# Altium footprint library resistors.PcbLib: 13 footprints
Each footprint in its own frame and in the unit in brackets; x right, y up, seen from the top. Pads: shape width x height; smd on the part's side, far side on the other; paste and mask are expansions set on the pad; w line width, h text height; cw(c..) or ccw(c..) is an arc to the next point about the centre after c.
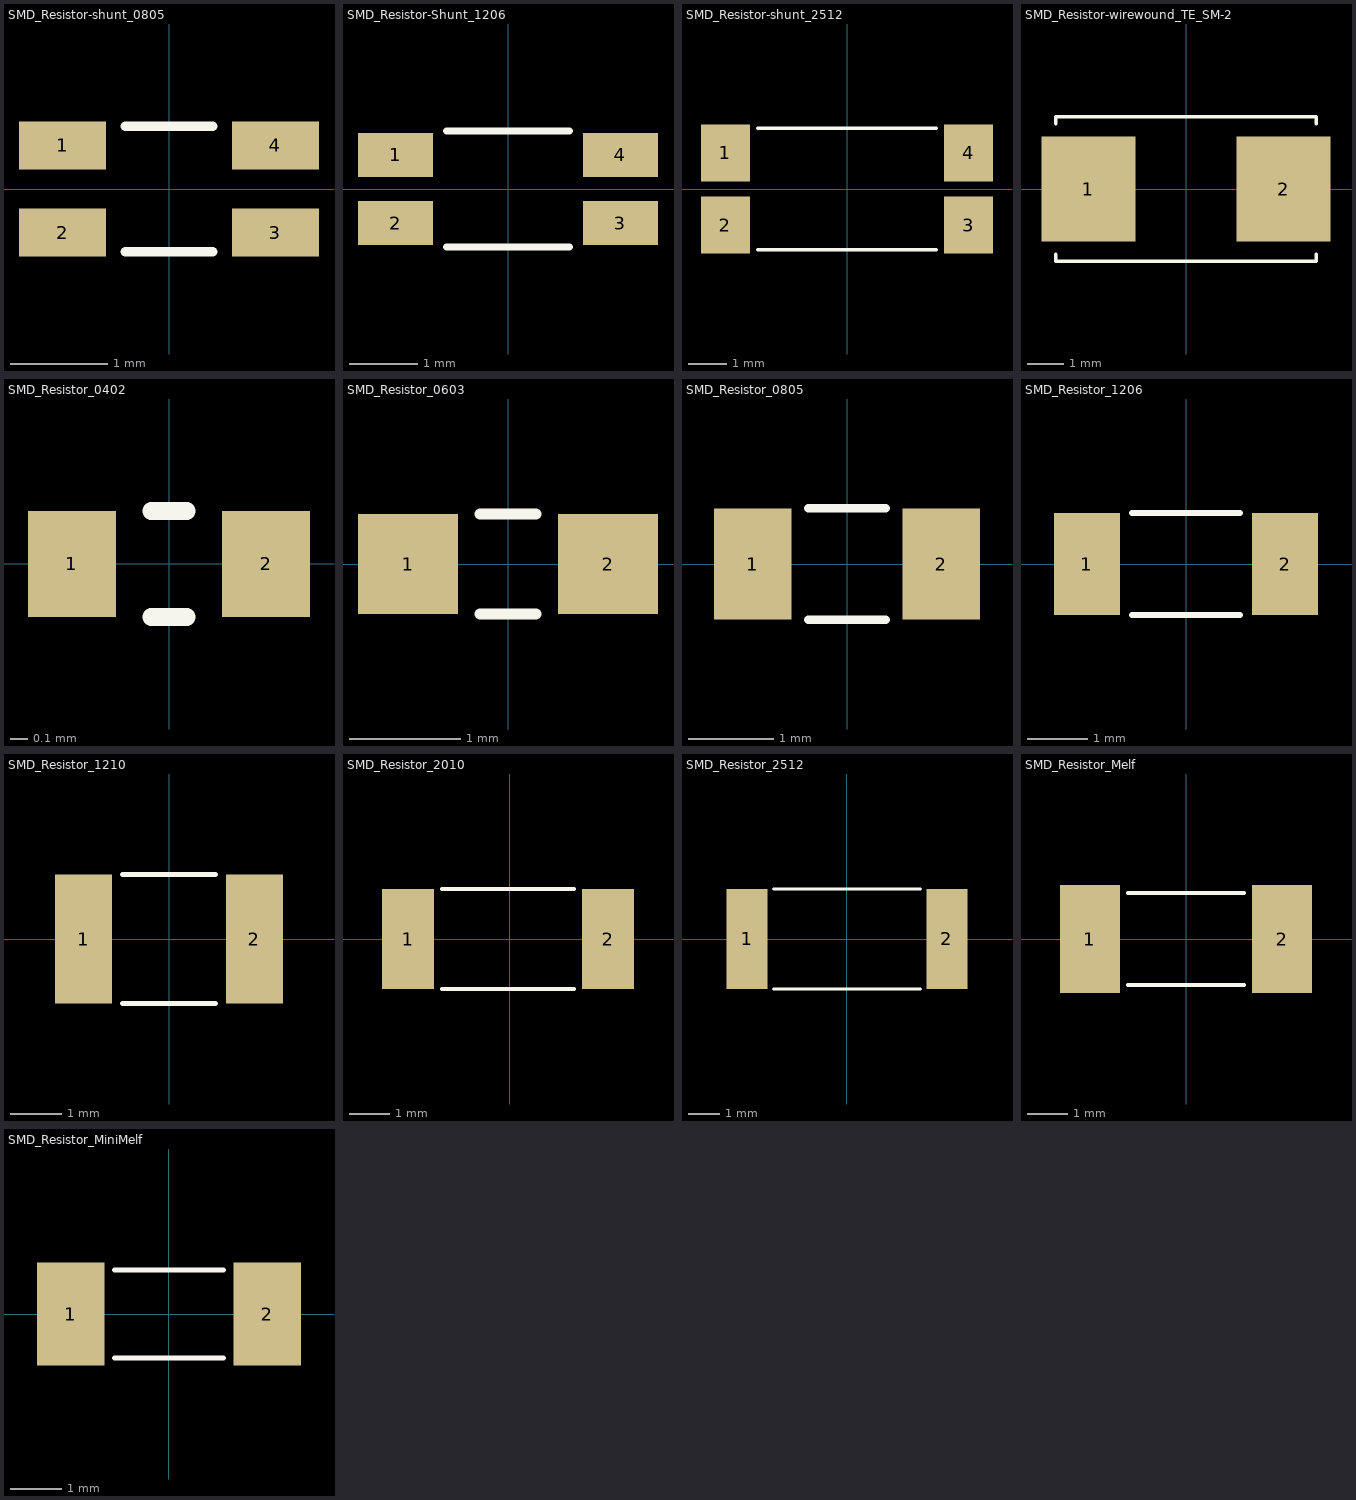
[diagram p0: the footprints below, top view; thin cyan lines are the x and y axes]

## SMD_Resistor-shunt_0805 [mm] "SMD Shunt Resistor, Inch 0805, Metric 2012."
pads (4):
  rect 0.9x0.5 smd: 1(-1.1,0.45) 2(-1.1,-0.45) 3(1.1,-0.45) 4(1.1,0.45)
Top Overlay:
  lines w0.1: -0.45,-0.65 0.45,-0.65 ; -0.45,0.65 0.45,0.65
3D body: height 0.5, standoff 0, extent -1,-0.625 1,0.625

## SMD_Resistor-Shunt_1206 [mm] "SMD Shunt Resistor, Inch 1206, Metric 3216."
pads (4):
  rect 1.1x0.65 smd: 1(-1.65,0.5) 2(-1.65,-0.5) 3(1.65,-0.5) 4(1.65,0.5)
Top Overlay:
  lines w0.1: -0.9,-0.85 0.9,-0.85 ; -0.9,0.85 0.9,0.85
3D body: height 0.7, standoff 0.1, extent -1.6,-0.8 1.6,0.8

## SMD_Resistor-shunt_2512 [mm] "SMD Shunt Resistor, Inch 2512, Metric 6332."
pads (4):
  rect 1.3x1.5 smd: 1(-3.2,0.95) 2(-3.2,-0.95) 3(3.2,-0.95) 4(3.2,0.95)
Top Overlay:
  lines w0.1: -2.35,-1.6 2.35,-1.6 ; -2.35,1.6 2.35,1.6
3D body: height 0.8, standoff 0.2, extent -3.2,-1.6 3.2,1.6

## SMD_Resistor-wirewound_TE_SM-2 [mm] "SMD Wirewound Precision Resistor, TE Connectivity SMW series. SM2 version."
pads (2):
  rect 2.6x2.9 smd: 1(-2.7,0) 2(2.7,0)
Top Overlay:
  lines w0.1: -3.6,-1.8 -3.6,-2 3.6,-2 3.6,-1.8 ; -3.6,1.8 -3.6,2 3.6,2 3.6,1.8
3D body: height 3.59, standoff 0, extent -3.6,-2 3.6,2

## SMD_Resistor_0402 [mm] "SMD Resistor, Inch 0402, Metric 1005."
pads (2):
  rect 0.5x0.6 smd: 1(-0.55,0) 2(0.55,0)
Top Overlay:
  lines w0.1: -0.1,-0.3 0.1,-0.3 ; -0.1,0.3 0.1,0.3
3D body: height 0.34, standoff 0, extent -0.52,-0.3 0.52,0.3

## SMD_Resistor_0603 [mm] "SMD Resistor, Inch 0603, Metric 1608."
pads (2):
  rect 0.9x0.9 smd: 1(-0.9,0) 2(0.9,0)
Top Overlay:
  lines w0.1: -0.25,-0.45 0.25,-0.45 ; -0.25,0.45 0.25,0.45
3D body: height 0.5, standoff 0, extent -0.8,-0.45 0.8,0.45

## SMD_Resistor_0805 [mm] "SMD Resistor, Inch 0805, Metric 2012."
pads (2):
  rect 0.9x1.3 smd: 1(-1.1,0) 2(1.1,0)
Top Overlay:
  lines w0.1: -0.45,-0.65 0.45,-0.65 ; -0.45,0.65 0.45,0.65
3D body: height 0.5, standoff 0, extent -1,-0.625 1,0.625

## SMD_Resistor_1206 [mm] "SMD Resistor, Inch 1206, Metric 3216."
pads (2):
  rect 1.1x1.7 smd: 1(-1.65,0) 2(1.65,0)
Top Overlay:
  lines w0.1: -0.9,-0.85 0.9,-0.85 ; -0.9,0.85 0.9,0.85
3D body: height 0.8, standoff 0.2, extent -1.6,-0.8 1.6,0.8

## SMD_Resistor_1210 [mm] "SMD Resistor, Inch 1210, Metric 3225."
pads (2):
  rect 1.1x2.5 smd: 1(-1.65,0) 2(1.65,0)
Top Overlay:
  lines w0.1: -0.9,-1.25 0.9,-1.25 ; -0.9,1.25 0.9,1.25
3D body: height 0.8, standoff 0.2, extent -1.6,-1.25 1.6,1.25

## SMD_Resistor_2010 [mm] "SMD Resistor, Inch 2010, Metric 5025."
pads (2):
  rect 1.3x2.5 smd: 1(-2.55,0) 2(2.45,0)
Top Overlay:
  lines w0.1: -1.7,-1.25 1.6,-1.25 ; -1.7,1.25 1.6,1.25
3D body: height 0.8, standoff 0.2, extent -2.55,-1.25 2.45,1.25

## SMD_Resistor_2512 [mm] "SMD Resistor, Inch 2512, Metric 6332."
pads (2):
  rect 1.3x3.2 smd: 1(-3.2,0) 2(3.2,0)
Top Overlay:
  lines w0.1: -2.35,-1.6 2.35,-1.6 ; -2.35,1.6 2.35,1.6
3D body: height 0.8, standoff 0.2, extent -3.2,-1.6 3.2,1.6

## SMD_Resistor_Melf [mm] "SMD Resistor, Melf."
pads (2):
  rect 1.5x2.7 smd: 1(-2.4,0) 2(2.4,0)
Top Overlay:
  lines w0.1: -1.45,-1.15 1.45,-1.15 ; -1.45,1.15 1.45,1.15
3D body: height 2.2, standoff 0, extent -2.65,-1.1 2.65,1.1

## SMD_Resistor_MiniMelf [mm] "SMD Resistor, MiniMelf."
pads (2):
  rect 1.3x2 smd: 1(-1.9,0) 2(1.9,0)
Top Overlay:
  lines w0.1: -1.05,-0.85 1.05,-0.85 ; -1.05,0.85 1.05,0.85
3D body: height 1.6, standoff 0, extent -1.75,-0.8 1.75,0.8